# EAGLE library part IC_LT1310 (library psas_eagle_library)
DC/DC Boost converter, 4.5MHz, 18V in, 35V out, 1.5A
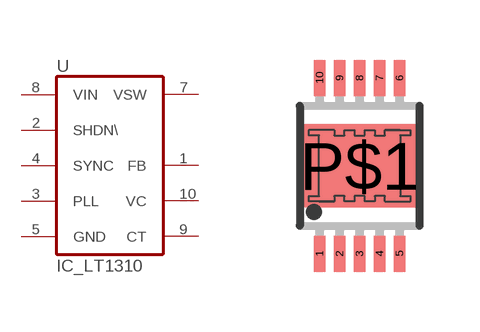
[diagram p16: symbol with the pads of LTMSOP10+; footprint LTMSOP10+]

Designator prefix -

## IC_LT1310  [LTMSOP10+]
1  FB  pas
2  SHDN\  in
3  PLL  pas
4  SYNC  in
5  GND  pwr
7  VSW  pas
8  VIN  pas
9  CT  pas
10  VC  pas

## Footprint LTMSOP10+ (pad centres in mm)
MSOP-10 package with under-pad. Pad is meant to be soldered to exposed gnd plate on package.
smd 0.279 x 0.9: 1 -1,-2.2; 2 -0.5,-2.2; 3 0,-2.2; 4 0.5,-2.2; 5 1,-2.2; 6 1,2.2; 7 0.5,2.2; 8 0,2.2; 9 -0.5,2.2; 10 -1,2.2
smd 2.794 x 2.083: P$1 0,0